# Altium schematic symbol library Schlib1.SchLib: 1 symbol
Pins are listed as number, name and electrical type; pins without a type are passive.

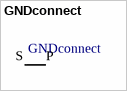
[diagram p0: symbol GNDconnect]

## GNDconnect
designator GNDconnect  (value not drawn)  (net tie, no BOM)
footprint GNDconnect (Connection point between SGND and PGND.)
pins: P, S